# EAGLE library part 2420-06? (library con-wieson-2420)
2.0mm 2420-06 - 6 pin Source: http://www.jm.pl/karty/2420-XXXT1X-C.pdf
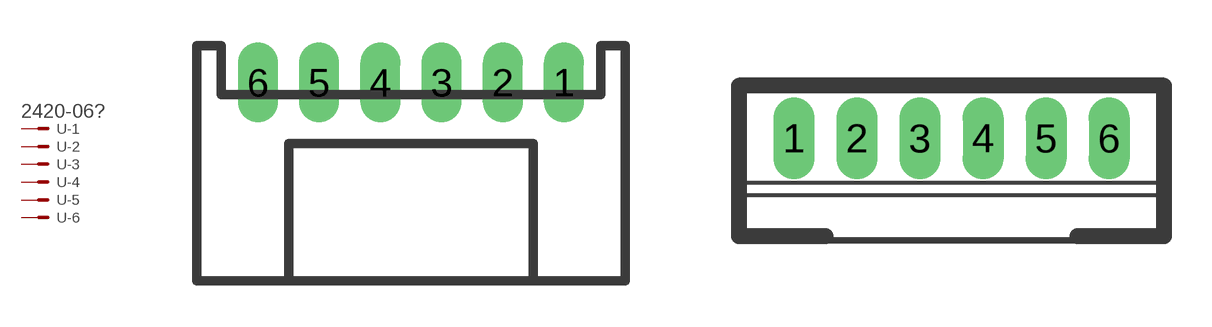
[diagram p0: symbol with the pads of 2420-06R; footprints 2420-06R, 2420-06S]

Designator prefix -; gates -1=MV -2=M -3=M -4=M -5=M -6=M

## 2420-06R  [2420-06R]
1  -1:>NAME$
2  -2:>NAME$
3  -3:>NAME$
4  -4:>NAME$
5  -5:>NAME$
6  -6:>NAME$

## 2420-06S  [2420-06S]

## Footprint 2420-06R (pad centres in mm)
2.0mm right angle 2420-06 - 6 pin Source: http://www.jm.pl/karty/2420-XXXT1X-C.pdf
drill 0.8 long: 1 5,0; 2 3,0; 3 1,0; 4 -1,0; 5 -3,0; 6 -5,0

## Footprint 2420-06S (pad centres in mm)
2.0mm straight 2420-06 - 6 pin Source: http://www.jm.pl/karty/2420-XXXT1X-C.pdf
drill 0.8 long: 1 -5,0; 2 -3,0; 3 -1,0; 4 1,0; 5 3,0; 6 5,0